# Altium footprint library LEDDimmerLib.PcbLib: 39 footprints (part 3 of 3)
Each footprint in its own frame and in the unit in brackets; x right, y up, seen from the top. Pads: shape width x height; smd on the part's side, far side on the other; paste and mask are expansions set on the pad; w line width, h text height; cw(c..) or ccw(c..) is an arc to the next point about the centre after c.
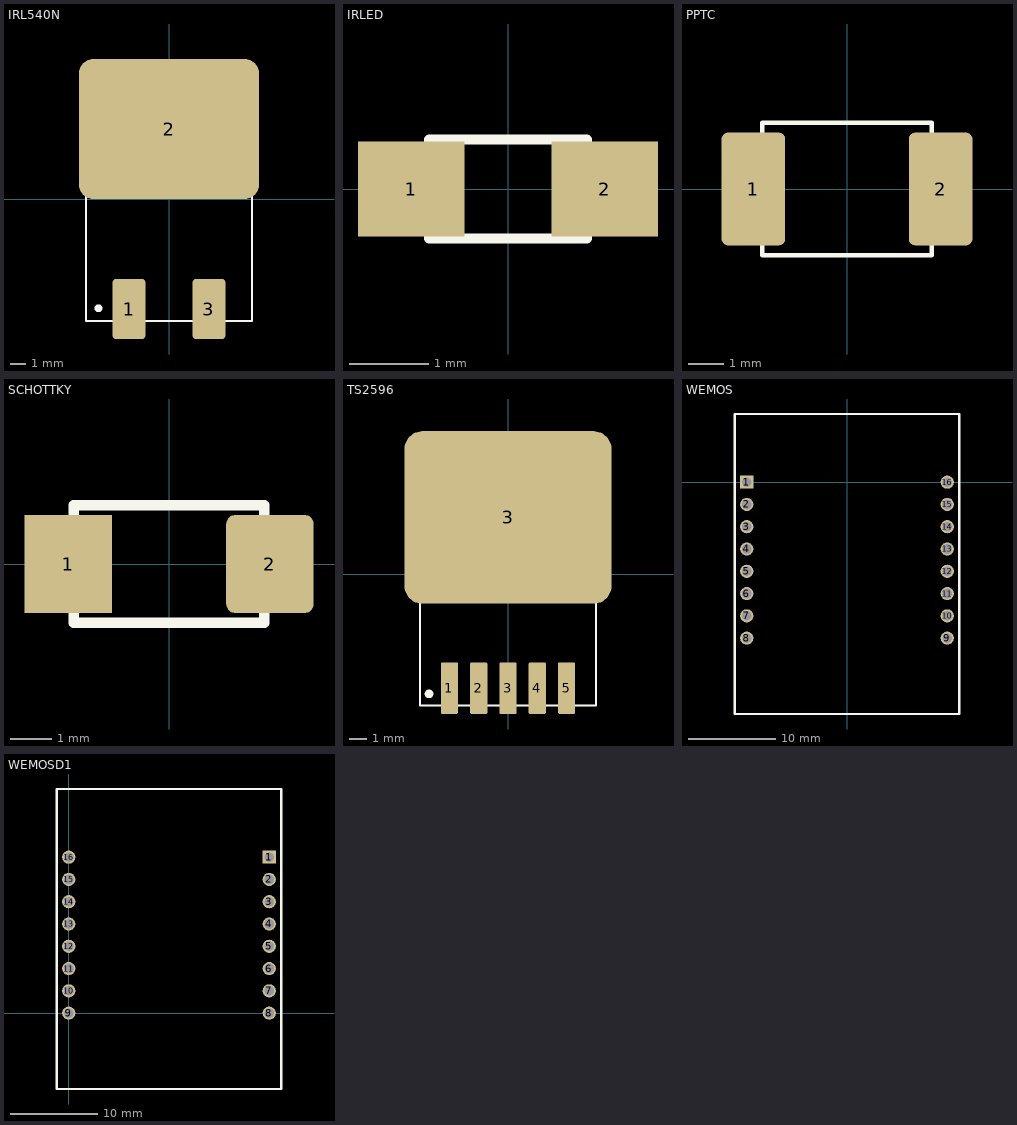
[diagram p2: the footprints below, top view; thin cyan lines are the x and y axes]

## IRL540N [mm] "D2PAK"
pads (3):
  rrect20% 2.08x3.81 smd: 1(-2.54,-6.985) 3(2.54,-6.985)
  rrect20% 11.43x8.89 smd: 2(0,4.445)
Top Overlay:
  circle w0.25: c-4.482,-6.937 r0.125
  lines w0.127: -5.27,-7.745 5.27,-7.745 5.27,7.745 -5.27,7.745 -5.27,-7.745
3D body "mosfet.step": height 4.78, standoff -0.02, extent -5,-7.84 5,7.83

## IRLED [mm] "Infrared led 0805"
pads (2):
  rect 1.35x1.2 smd: 1(-1.225,0) 2(1.225,0)
Top Overlay:
  lines w0.127: -1,-0.625 -1,0.625 1,0.625 1,-0.625 -1,-0.625
3D body "infraled.step": height 1.1, standoff 0, extent -1.001,-0.625 1.001,0.625

## PPTC [mm] "PPTC 1812"
pads (2):
  rrect20% 1.78x3.15 smd: 1(-2.615,0) 2(2.615,0)
Top Overlay:
  lines w0.127: -2.365,-1.855 -2.365,1.855 2.365,1.855 2.365,-1.855 -2.365,-1.855
3D body "pptc3.step": height 0.61, standoff -0.01, extent -2.252,-1.613 2.252,1.613

## SCHOTTKY [mm] "Schottky"
pads (2):
  rect 2.115x2.37 smd: 1(-2.44,0)
  rrect20% 2.115x2.37 smd: 2(2.44,0)
Top Overlay:
  lines w0.254: -2.3,-1.415 2.3,-1.415 2.3,1.415 -2.3,1.415 -2.3,-1.415
3D body "schottky.step": height 2.29, standoff 0.01, extent -2.743,-1.397 2.743,1.397

## TS2596 [mm]
pads (6):
  rrect20% 1x3 smd: 1(-3.4,-6.6) 2(-1.7,-6.6) 3(0,-6.6) 4(1.7,-6.6) 5(3.4,-6.6)
  rrect20% 12x10 smd: 3(0,3.3)
Top Overlay:
  circle w0.25: c-4.582,-6.937 r0.125
  lines w0.127: -5.1,-7.6 -5.1,7.6 5.1,7.6 5.1,-7.6 -5.1,-7.6
3D body "buck.STEP": height 4.57, standoff -0.01, extent -5.08,-7.321 5.08,7.32

## WEMOS [mm] "Wemos D1 mini"
height 8.54
pads (16):
  rect 1.5x1.5 hole 1.1: 1(-11.43,0)
  round 1.5 hole 1.1: 2(-11.43,-2.54) 3(-11.43,-5.08) 4(-11.43,-7.62) 5(-11.43,-10.16) 6(-11.43,-12.7) 7(-11.43,-15.24) 8(-11.43,-17.78) 9(11.43,-17.78) 10(11.43,-15.24) 11(11.43,-12.7) 12(11.43,-10.16) 13(11.43,-7.62) 14(11.43,-5.08) 15(11.43,-2.54) 16(11.43,0)
Top Overlay:
  lines w0.254: -12.8,-26.43 12.8,-26.43 12.8,7.77 -12.8,7.77 -12.8,-26.43

## WEMOSD1 [mm] "WEMOSD1"
height 8.54
pads (16):
  rect 1.5x1.5 hole 1.1: 1(22.86,17.78)
  round 1.5 hole 1.1: 2(22.86,15.24) 3(22.86,12.7) 4(22.86,10.16) 5(22.86,7.62) 6(22.86,5.08) 7(22.86,2.54) 8(22.86,0) 9(0,0) 10(0,2.54) 11(0,5.08) 12(0,7.62) 13(0,10.16) 14(0,12.7) 15(0,15.24) 16(0,17.78)
Top Overlay:
  lines w0.254: -1.37,-8.65 24.23,-8.65 24.23,25.55 -1.37,25.55 -1.37,-8.65
3D body: height 2.54, standoff 0, extent -1.281,14.06 1.259,19.14
3D body: height 2.54, standoff 0, extent -1.27,-1.29 1.27,3.79
3D body: height 2.54, standoff 0, extent -1.27,3.8 1.27,8.88
3D body: height 2.54, standoff 0, extent -1.27,8.91 1.27,13.99
3D body: height 2.54, standoff 0, extent 21.58,-1.29 24.12,3.79
3D body: height 2.54, standoff 0, extent 21.58,3.8 24.12,8.88
3D body: height 2.54, standoff 0, extent 21.58,8.9 24.12,13.98
3D body: height 2.54, standoff 0, extent 21.58,14 24.12,19.08
3D body "User Library-WeMos.STEP": height 11.64, standoff -0.34, extent -1.121,-9.769 24.179,24.648